# Altium footprint library eecs5x.PcbLib: 161 footprints (part 10 of 11)
Each footprint in its own frame and in the unit in brackets; x right, y up, seen from the top. Pads: shape width x height; smd on the part's side, far side on the other; paste and mask are expansions set on the pad; w line width, h text height; cw(c..) or ccw(c..) is an arc to the next point about the centre after c.
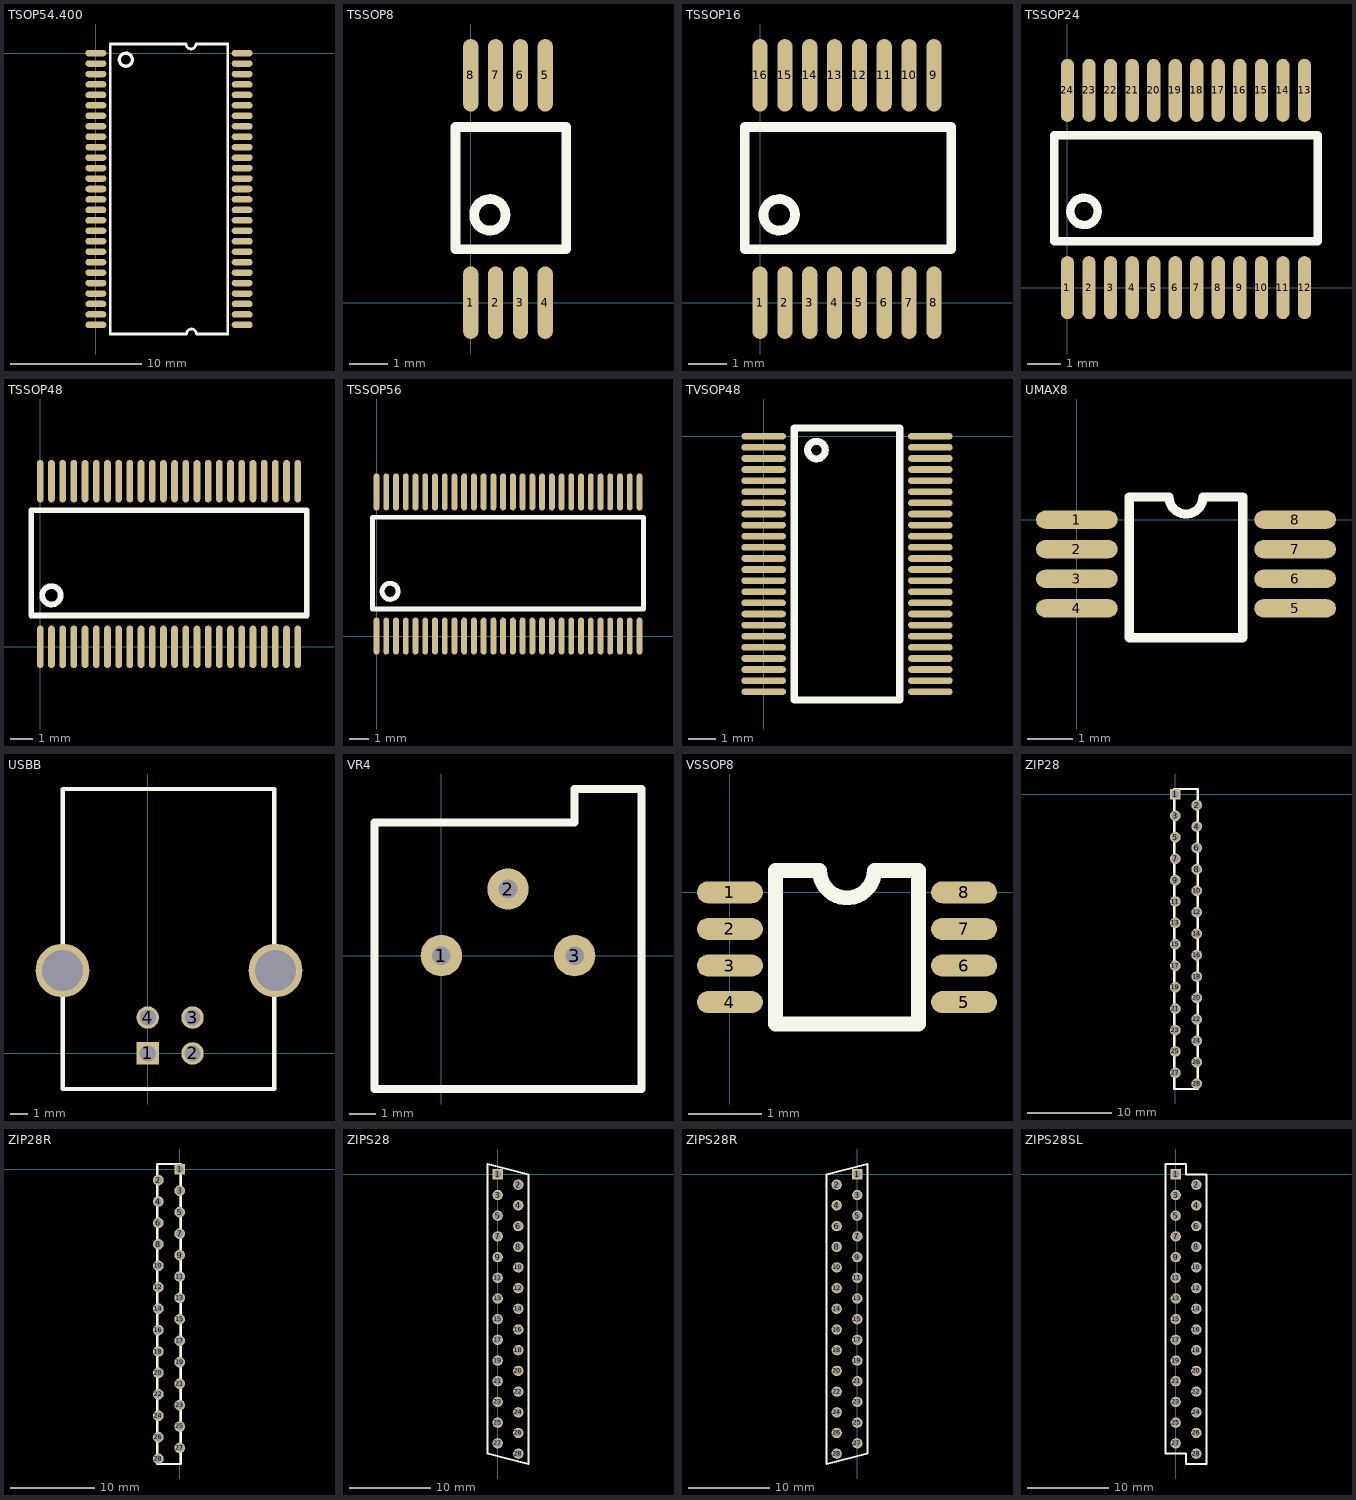
[diagram p9: the footprints below, top view; thin cyan lines are the x and y axes]

## TSOP54.400 [mm]
pads (54):
  oval 1.6x0.5 smd: 1(0,0) 2(0,-0.8) 3(0,-1.6) 4(0,-2.4) 5(0,-3.2) 6(0,-4) 7(0,-4.8) 8(0,-5.6) 9(0,-6.4) 10(0,-7.2) 11(0,-8) 12(0,-8.8) 13(0,-9.6) 14(0,-10.4) 15(0,-11.2) 16(0,-12) 17(0,-12.8) 18(0,-13.6) 19(0,-14.4) 20(0,-15.2) 21(0,-16) 22(0,-16.8) 23(0,-17.6) 24(0,-18.4) 25(0,-19.2) 26(0,-20) 27(0,-20.8) 28(11.2,-20.8) 29(11.2,-20) 30(11.2,-19.2) 31(11.2,-18.4) 32(11.2,-17.6) 33(11.2,-16.8) 34(11.2,-16) 35(11.2,-15.2) 36(11.2,-14.4) 37(11.2,-13.6) 38(11.2,-12.8) 39(11.2,-12) 40(11.2,-11.2) 41(11.2,-10.4) 42(11.2,-9.6) 43(11.2,-8.8) 44(11.2,-8) 45(11.2,-7.2) 46(11.2,-6.4) 47(11.2,-5.6) 48(11.2,-4.8) 49(11.2,-4) 50(11.2,-3.2) 51(11.2,-2.4) 52(11.2,-1.6) 53(11.2,-0.8) 54(11.2,0)
Top Overlay:
  circle w0.254: c2.3,-0.5 r0.5
  lines w0.203: 6.9,-21.5 1.1,-21.5 1.1,0.7 6.9,0.7 ccw(c7.281,0.7) 7.662,0.7 10.1,0.7 10.1,-21.5 7.7,-21.5 ccw(c7.319,-21.5) 6.938,-21.5

## TSSOP8 [mm]
pads (8):
  oval 0.4x1.9 smd: 1(0,0) 2(0.65,0) 3(1.3,0) 4(1.95,0) 5(1.95,5.95) 6(1.3,5.95) 7(0.65,5.95) 8(0,5.95)
Top Overlay:
  circle w0.254: c0.5,2.3 r0.412
  lines w0.254: -0.4,1.4 -0.4,4.6 2.5,4.6 2.5,1.4 -0.4,1.4

## TSSOP16 [mm]
pads (16):
  oval 0.4x1.9 smd: 1(0,0) 2(0.65,0) 3(1.3,0) 4(1.95,0) 5(2.6,0) 6(3.25,0) 7(3.9,0) 8(4.55,0) 9(4.55,5.95) 10(3.9,5.95) 11(3.25,5.95) 12(2.6,5.95) 13(1.95,5.95) 14(1.3,5.95) 15(0.65,5.95) 16(0,5.95)
Top Overlay:
  circle w0.254: c0.5,2.3 r0.412
  lines w0.254: -0.4,1.4 -0.4,4.6 5,4.6 5,1.4 -0.4,1.4

## TSSOP24 [mm]
pads (24):
  oval 0.4x1.9 smd: 1(0,0) 2(0.65,0) 3(1.3,0) 4(1.95,0) 5(2.6,0) 6(3.25,0) 7(3.9,0) 8(4.55,0) 9(5.2,0) 10(5.85,0) 11(6.5,0) 12(7.15,0) 13(7.15,5.95) 14(6.5,5.95) 15(5.85,5.95) 16(5.2,5.95) 17(4.55,5.95) 18(3.9,5.95) 19(3.25,5.95) 20(2.6,5.95) 21(1.95,5.95) 22(1.3,5.95) 23(0.65,5.95) 24(0,5.95)
Top Overlay:
  circle w0.254: c0.5,2.3 r0.412
  lines w0.254: -0.4,1.4 -0.4,4.6 7.55,4.6 7.55,1.4 -0.4,1.4

## TSSOP48 [mm]
pads (48):
  oval 0.3x1.9 smd: 1(0,0) 2(0.5,0) 3(1,0) 4(1.5,0) 5(2,0) 6(2.5,0) 7(3,0) 8(3.5,0) 9(4,0) 10(4.5,0) 11(5,0) 12(5.5,0) 13(6,0) 14(6.5,0) 15(7,0) 16(7.5,0) 17(8,0) 18(8.5,0) 19(9,0) 20(9.5,0) 21(10,0) 22(10.5,0) 23(11,0) 24(11.5,0) 25(11.5,7.4) 26(11,7.4) 27(10.5,7.4) 28(10,7.4) 29(9.5,7.4) 30(9,7.4) 31(8.5,7.4) 32(8,7.4) 33(7.5,7.4) 34(7,7.4) 35(6.5,7.4) 36(6,7.4) 37(5.5,7.4) 38(5,7.4) 39(4.5,7.4) 40(4,7.4) 41(3.5,7.4) 42(3,7.4) 43(2.5,7.4) 44(2,7.4) 45(1.5,7.4) 46(1,7.4) 47(0.5,7.4) 48(0,7.4)
Top Overlay:
  circle w0.254: c0.5,2.3 r0.412
  lines w0.254: -0.4,1.4 -0.4,6.1 11.9,6.1 11.9,1.4 -0.4,1.4

## TSSOP56 [mm]
pads (56):
  oval 0.3x1.9 smd: 1(0,0) 2(0.5,0) 3(1,0) 4(1.5,0) 5(2,0) 6(2.5,0) 7(3,0) 8(3.5,0) 9(4,0) 10(4.5,0) 11(5,0) 12(5.5,0) 13(6,0) 14(6.5,0) 15(7,0) 16(7.5,0) 17(8,0) 18(8.5,0) 19(9,0) 20(9.5,0) 21(10,0) 22(10.5,0) 23(11,0) 24(11.5,0) 25(12,0) 26(12.5,0) 27(13,0) 28(13.5,0) 29(13.5,7.4) 30(13,7.4) 31(12.5,7.4) 32(12,7.4) 33(11.5,7.4) 34(11,7.4) 35(10.5,7.4) 36(10,7.4) 37(9.5,7.4) 38(9,7.4) 39(8.5,7.4) 40(8,7.4) 41(7.5,7.4) 42(7,7.4) 43(6.5,7.4) 44(6,7.4) 45(5.5,7.4) 46(5,7.4) 47(4.5,7.4) 48(4,7.4) 49(3.5,7.4) 50(3,7.4) 51(2.5,7.4) 52(2,7.4) 53(1.5,7.4) 54(1,7.4) 55(0.5,7.4) 56(0,7.4)
Top Overlay:
  circle w0.254: c0.7,2.3 r0.412
  lines w0.254: -0.2,1.4 -0.2,6.1 13.7,6.1 13.7,1.4 -0.2,1.4

## TVSOP48 [mm]
pads (48):
  oval 1.6x0.24 smd: 1(0,0) 2(0,-0.4) 3(0,-0.8) 4(0,-1.2) 5(0,-1.6) 6(0,-2) 7(0,-2.4) 8(0,-2.8) 9(0,-3.2) 10(0,-3.6) 11(0,-4) 12(0,-4.4) 13(0,-4.8) 14(0,-5.2) 15(0,-5.6) 16(0,-6) 17(0,-6.4) 18(0,-6.8) 19(0,-7.2) 20(0,-7.6) 21(0,-8) 22(0,-8.4) 23(0,-8.8) 24(0,-9.2) 25(6,-9.2) 26(6,-8.8) 27(6,-8.4) 28(6,-8) 29(6,-7.6) 30(6,-7.2) 31(6,-6.8) 32(6,-6.4) 33(6,-6) 34(6,-5.6) 35(6,-5.2) 36(6,-4.8) 37(6,-4.4) 38(6,-4) 39(6,-3.6) 40(6,-3.2) 41(6,-2.8) 42(6,-2.4) 43(6,-2) 44(6,-1.6) 45(6,-1.2) 46(6,-0.8) 47(6,-0.4) 48(6,0)
Top Overlay:
  circle w0.254: c1.9,-0.5 r0.316
  lines w0.254: 1.1,-9.5 1.1,0.3 4.9,0.3 4.9,-9.5 1.1,-9.5

## UMAX8 [mm]
pads (8):
  oval 1.8x0.4 smd: 1(0,0) 2(0,-0.65) 3(0,-1.3) 4(0,-1.95) 5(4.8,-1.95) 6(4.8,-1.3) 7(4.8,-0.65) 8(4.8,0)
Top Overlay:
  lines w0.203: 1.15,-2.6 1.15,0.5 2.025,0.5 ccw(c2.4,0.5) 2.775,0.5 3.65,0.5 3.65,-2.6 1.15,-2.6

## USBB [mil]
pads (6):
  rect 50x50 hole 36: 1(0,0)
  round 50 hole 36: 2(100,0) 3(100,80) 4(0,80)
  round 120 hole 91: ""(-190,185) ""(285,185)
Top Overlay:
  lines w10: -190.06,-79.33 -190.06,589.96 282.38,589.96 282.38,-79.33 -190.06,-79.33

## VR4 [mil]
pads (3):
  round 62 hole 28: 1(0,0) 2(100,100) 3(200,0)
Top Overlay:
  lines w12: -100,-200 -100,200 200,200 200,250 300,250 300,-200 -100,-200

## VSSOP8 [mm]
pads (8):
  oval 0.9x0.3 smd: 1(0,0) 2(0,-0.5) 3(0,-1) 4(0,-1.5) 5(3.2,-1.5) 6(3.2,-1) 7(3.2,-0.5) 8(3.2,0)
Top Overlay:
  lines w0.203: 0.625,-1.8 0.625,0.3 1.225,0.3 ccw(c1.6,0.3) 1.975,0.3 2.575,0.3 2.575,-1.8 0.625,-1.8

## ZIP28 [mil]
pads (28):
  rect 50x50 hole 35: 1(0,0)
  round 50 hole 35: 2(100,-50) 3(0,-100) 4(100,-150) 5(0,-200) 6(100,-250) 7(0,-300) 8(100,-350) 9(0,-400) 10(100,-450) 11(0,-500) 12(100,-550) 13(0,-600) 14(100,-650) 15(0,-700) 16(100,-750) 17(0,-800) 18(100,-850) 19(0,-900) 20(100,-950) 21(0,-1000) 22(100,-1050) 23(0,-1100) 24(100,-1150) 25(0,-1200) 26(100,-1250) 27(0,-1300) 28(100,-1350)
Top Overlay:
  lines w10: -5,-1375 -5,25 105,25 105,-1375 -5,-1375

## ZIP28R [mil]
pads (28):
  rect 50x50 hole 35: 1(0,0)
  round 50 hole 35: 2(-100,-50) 3(0,-100) 4(-100,-150) 5(0,-200) 6(-100,-250) 7(0,-300) 8(-100,-350) 9(0,-400) 10(-100,-450) 11(0,-500) 12(-100,-550) 13(0,-600) 14(-100,-650) 15(0,-700) 16(-100,-750) 17(0,-800) 18(-100,-850) 19(0,-900) 20(-100,-950) 21(0,-1000) 22(-100,-1050) 23(0,-1100) 24(-100,-1150) 25(0,-1200) 26(-100,-1250) 27(0,-1300) 28(-100,-1350)
Top Overlay:
  lines w10: -105,-1375 -105,25 5,25 5,-1375 -105,-1375

## ZIPS28 [mil]
pads (28):
  rect 50x50 hole 35: 1(0,0)
  round 50 hole 35: 2(100,-50) 3(0,-100) 4(100,-150) 5(0,-200) 6(100,-250) 7(0,-300) 8(100,-350) 9(0,-400) 10(100,-450) 11(0,-500) 12(100,-550) 13(0,-600) 14(100,-650) 15(0,-700) 16(100,-750) 17(0,-800) 18(100,-850) 19(0,-900) 20(100,-950) 21(0,-1000) 22(100,-1050) 23(0,-1100) 24(100,-1150) 25(0,-1200) 26(100,-1250) 27(0,-1300) 28(100,-1350)
Top Overlay:
  lines w10: -50,-1350 150,-1400 150,0 -50,50 -50,-1350

## ZIPS28R [mil]
pads (28):
  rect 50x50 hole 35: 1(0,0)
  round 50 hole 35: 2(-100,-50) 3(0,-100) 4(-100,-150) 5(0,-200) 6(-100,-250) 7(0,-300) 8(-100,-350) 9(0,-400) 10(-100,-450) 11(0,-500) 12(-100,-550) 13(0,-600) 14(-100,-650) 15(0,-700) 16(-100,-750) 17(0,-800) 18(-100,-850) 19(0,-900) 20(-100,-950) 21(0,-1000) 22(-100,-1050) 23(0,-1100) 24(-100,-1150) 25(0,-1200) 26(-100,-1250) 27(0,-1300) 28(-100,-1350)
Top Overlay:
  lines w10: -150,-1400 50,-1350 50,50 -150,0 -150,-1400

## ZIPS28SL [mil]
pads (28):
  rect 50x50 hole 35: 1(0,0)
  round 50 hole 35: 2(100,-50) 3(0,-100) 4(100,-150) 5(0,-200) 6(100,-250) 7(0,-300) 8(100,-350) 9(0,-400) 10(100,-450) 11(0,-500) 12(100,-550) 13(0,-600) 14(100,-650) 15(0,-700) 16(100,-750) 17(0,-800) 18(100,-850) 19(0,-900) 20(100,-950) 21(0,-1000) 22(100,-1050) 23(0,-1100) 24(100,-1150) 25(0,-1200) 26(100,-1250) 27(0,-1300) 28(100,-1350)
Top Overlay:
  lines w10: -50,-1350 -50,50 50,50 50,0 150,0 150,-1400 50,-1400 50,-1350 -50,-1350